# Altium footprint library PCB11.PcbLib: 38 footprints (part 3 of 3)
Each footprint in its own frame and in the unit in brackets; x right, y up, seen from the top. Pads: shape width x height; smd on the part's side, far side on the other; paste and mask are expansions set on the pad; w line width, h text height; cw(c..) or ccw(c..) is an arc to the next point about the centre after c.
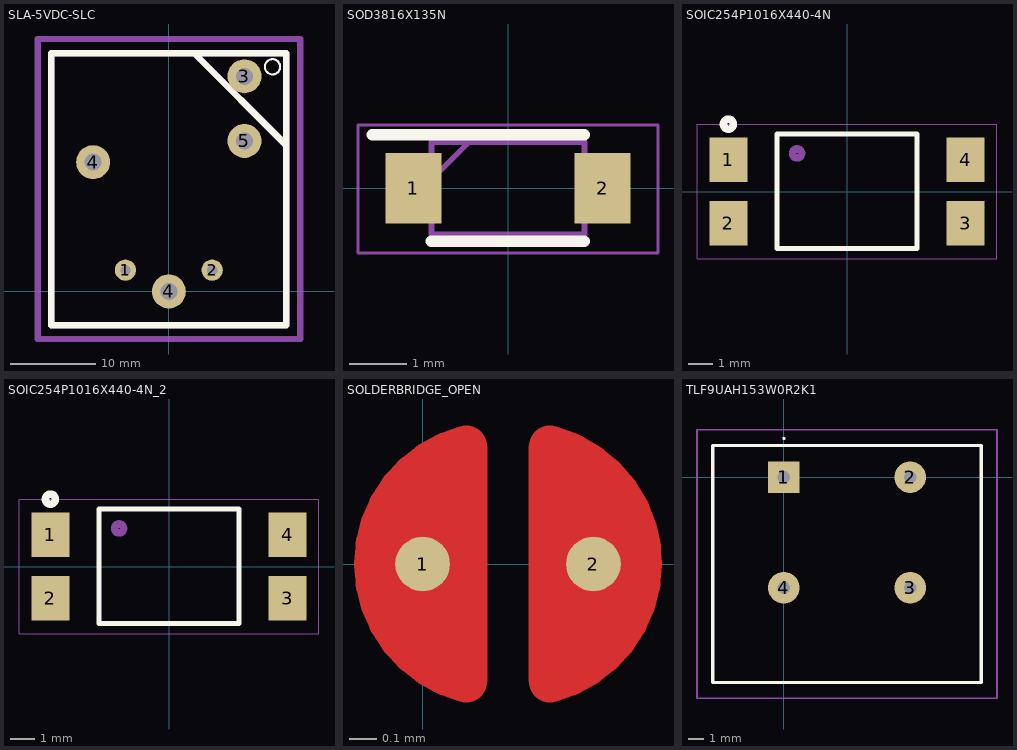
[diagram p2: the footprints below, top view; thin cyan lines are the x and y axes]

## SLA-5VDC-SLC [mm] "Relay 5V - 30A"
height 19.8
pads (6):
  round 2.5 hole 1.2: 1(-5.1,2.5) 2(5.1,2.5)
  round 4 hole 2: 3(8.9,25.3) 4(-8.9,15.2) 4(0,0) 5(8.9,17.7)
Top Overlay:
  circle w0.254: c12.192,26.416 r0.898
  lines w0.762: 3.048,27.94 13.716,17.272 ; -13.8,-4 13.8,-4 13.8,28 -13.8,28 -13.8,-4
Top Component Outline:
  lines w0.762: 3.048,27.94 13.716,17.272 ; -13.8,-4 13.8,-4 13.8,28 -13.8,28 -13.8,-4
Top Courtyard (Mech15):
  lines w0.762: -15.437,-5.596 15.481,-5.596 15.481,29.682 -15.437,29.682 -15.437,-5.596
Top Designator (Mech17):
  text ".Designator" at -4.05,30.799 h1.52

## SOD3816X135N [mm]
height 1.35
pads (2):
  rect 0.97x1.22 smd mask+0.076: 1(-1.64,0) 2(1.64,0)
Top Overlay:
  lines w0.2: -2.35,0.928 1.325,0.928 ; -1.331,-0.922 1.319,-0.922
Top Component Outline:
  lines w0.1: -1.325,0.15 -0.675,0.8 ; -1.325,-0.8 -1.325,0.8 1.325,0.8 1.325,-0.8 -1.325,-0.8
Top Courtyard (Mech15):
  lines w0.05: -2.6,-1.125 -2.6,1.1 2.6,1.1 2.6,-1.125 -2.6,-1.125
Top Designator (Mech17):
  text ".Designator" at -3.489,1.643 h1.52
3D body "1N4148W_R1_00001.stp": height 1.35, standoff 0, extent -1.875,-0.8 1.875,0.8

## SOIC254P1016X440-4N [mm]
height 3.8
pads (4):
  rect 1.52x1.78 smd: 1(-4.76,1.27) 2(-4.76,-1.27) 3(4.76,-1.27) 4(4.76,1.27)
Top Overlay:
  circle w0.3: c-4.758,2.703 r0.2
  lines w0.2: -2.8,2.29 -2.8,-2.29 2.8,-2.29 2.8,2.29 ; -2.8,2.3 2.8,2.3
Top Component Outline:
  circle w0.3: c-2.003,1.53 r0.18
Top Courtyard (Mech15):
  lines w0.05: -6.02,-2.7 -6.02,2.7 6.02,2.7 6.02,-2.7 -6.02,-2.7
Top Designator (Mech17):
  text ".Designator" at -3.434,3.202 h1.52
3D body "step_temp.STEP": height 1.75, standoff -1.94, extent -5.08,-2.29 5.08,2.29

## SOIC254P1016X440-4N_2 [mm]
height 3.8
pads (4):
  rect 1.52x1.78 smd: 1(-4.76,1.27) 2(-4.76,-1.27) 3(4.76,-1.27) 4(4.76,1.27)
Top Overlay:
  circle w0.3: c-4.758,2.703 r0.2
  lines w0.2: -2.8,2.29 -2.8,-2.29 2.8,-2.29 2.8,2.29 ; -2.8,2.3 2.8,2.3
Top Component Outline:
  circle w0.3: c-2.003,1.53 r0.18
Top Courtyard (Mech15):
  lines w0.05: -6.02,-2.7 -6.02,2.7 6.02,2.7 6.02,-2.7 -6.02,-2.7
Top Designator (Mech17):
  text ".Designator" at -3.434,3.202 h1.52
3D body "step_temp.STEP": height 1.75, standoff -1.94, extent -5.08,-2.29 5.08,2.29

## SOLDERBRIDGE_OPEN [mm]
pads (2):
  round 0.2 smd paste-10: 1(0,0) 2(0.625,0)
Top Layer:
  region: 0.389,0.432 0.465,0.505 0.583,0.467 0.648,0.424 0.721,0.351 0.775,0.292 0.833,0.193 0.861,0.099 0.856,-0.122 0.831,-0.193 0.747,-0.33 0.663,-0.411 0.571,-0.469 0.47,-0.5 0.419,-0.483 0.389,-0.43
  region: 0.236,-0.432 0.16,-0.505 0.042,-0.467 -0.023,-0.424 -0.097,-0.351 -0.15,-0.292 -0.208,-0.193 -0.236,-0.099 -0.231,0.122 -0.206,0.193 -0.122,0.33 -0.038,0.411 0.054,0.469 0.155,0.5 0.206,0.483 0.236,0.43
  lines w0.152: 0.159,-0.431 cw(c0.27,0) -0.175,0 cw(c0.27,0) 0.159,0.431 ; 0.465,-0.431 ccw(c0.355,0) 0.799,0 ccw(c0.355,0) 0.782,0.122 ccw(c0.355,0) 0.465,0.431
Top Solder:
  circle w0.61: c0.31,0 r0.279
Top Designator (Mech17):
  text ".Designator" at -3.094,1.268 h1.52

## TLF9UAH153W0R2K1 [mm]
height 12
pads (4):
  rect 2x2 hole 0.8: 1(0,0)
  round 2 hole 0.8: 2(8,0) 3(8,-7) 4(0,-7)
Top Overlay:
  lines w0.1: 0,2.4 ccw(c0,2.45) 0,2.5 ccw(c0,2.45) 0,2.4
  lines w0.2: -4.5,-13 12.5,-13 12.5,2 -4.5,2 -4.5,-13
Top Component Outline:
  lines w0.1: -4.5,-13 12.5,-13 12.5,2 -4.5,2 -4.5,-13
Top Courtyard (Mech15):
  lines w0.1: -5.5,-14 13.5,-14 13.5,3 -5.5,3 -5.5,-14
Top Designator (Mech17):
  text ".Designator" at -3.618,-6.008 h1.52
3D body "TLF9UAH153W0R2K1.stp": height 12.1, standoff -5, extent -4.5,-13 12.5,2